# EAGLE library part IN240A (library bsodmike-Eagle-Libraries)
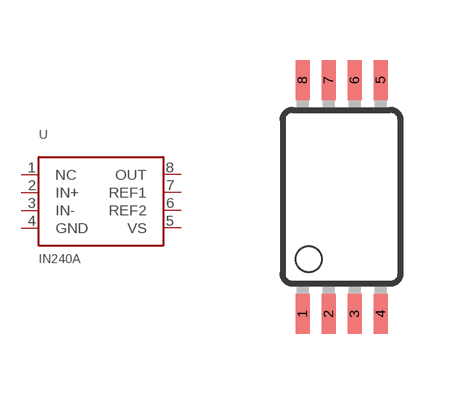
[diagram p1: symbol with the pads of TSSOP8; footprint TSSOP8]

Designator prefix -

## IN240ATSSOP8  [TSSOP8]
1  NC  nc
2  IN+  in
3  IN-  in
4  GND
5  VS  pwr
6  REF2  in
7  REF1  out
8  OUT

## Footprint TSSOP8 (pad centres in mm)
8A2-TSSOP Source: http://www.atmel.com/dyn/resources/prod_documents/doc5089.pdf
smd 0.35 x 1: 1 -0.975,-2.925; 2 -0.325,-2.925; 3 0.325,-2.925; 4 0.975,-2.925; 5 0.975,2.925; 6 0.325,2.925; 7 -0.325,2.925; 8 -0.975,2.925